# EAGLE library part MC21605G-? (library midas)
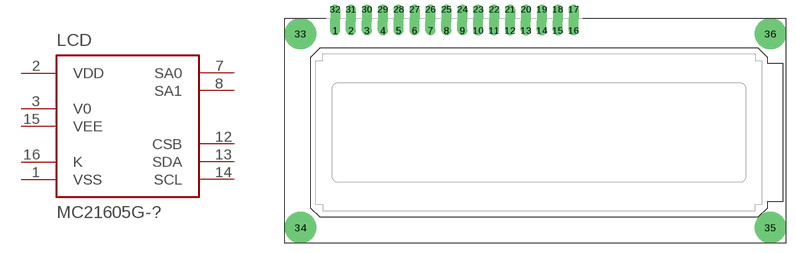
[diagram p0: symbol with the pads of MC21605G; footprint MC21605G]

Designator prefix LCD

## MC21605G-VNMLWI (OC_FARNELL: 2425704)  [MC21605G]
1  VSS
2  VDD
3  V0
7  SA0
8  SA1
12  CSB
13  SDA
14  SCL
15  VEE
16  K

## Footprint MC21605G (pad centres in mm)
drill 1 pad 1.6 offset: 1 -32.55,16.3; 2 -30.01,16.3; 3 -27.47,16.3; 4 -24.93,16.3; 5 -22.39,16.3; 6 -19.85,16.3; 7 -17.31,16.3; 8 -14.77,16.3; 9 -12.23,16.3; 10 -9.69,16.3; 11 -7.15,16.3; 12 -4.61,16.3; 13 -2.07,16.3; 14 0.47,16.3; 15 3.01,16.3; 16 5.55,16.3; 17 5.55,19.7; 18 3.01,19.7; 19 0.47,19.7; 20 -2.07,19.7; 21 -4.61,19.7; 22 -7.15,19.7; 23 -9.69,19.7; 24 -12.23,19.7; 25 -14.77,19.7; 26 -17.31,19.7; 27 -19.85,19.7; 28 -22.39,19.7; 29 -24.93,19.7; 30 -27.47,19.7; 31 -30.01,19.7; 32 -32.55,19.7
drill 2.7 pad 5: 33 -38.05,15.8; 34 -38.05,-15.2; 35 36.95,-15.2; 36 36.95,15.8